# EAGLE library part DS1307ZN (library OPL Eagle Library)
34X8 serial Real-Time Clock
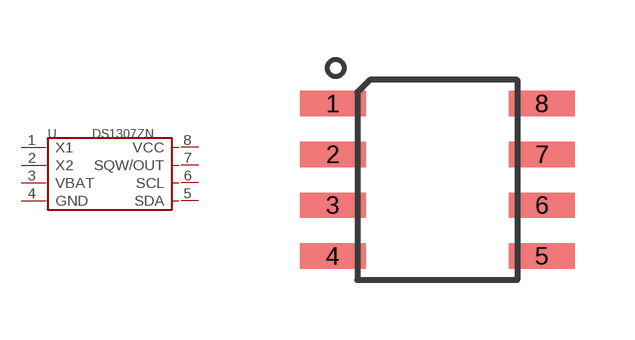
[diagram p8: symbol with the pads of SOIC8; footprint SOIC8]

Designator prefix U

## DS1307ZN-1900100P1  [SOIC8]
1  X1
2  X2
3  VBAT
4  GND
5  SDA
6  SCL
7  SQW/OUT
8  VCC

## Footprint SOIC8 (pad centres in mm)
Small Outline Package
smd 1.651 x 0.635: 1 -2.616,1.905; 2 -2.616,0.635; 3 -2.616,-0.635; 4 -2.616,-1.905; 5 2.616,-1.905; 6 2.616,-0.635; 7 2.616,0.635; 8 2.616,1.905